# EAGLE library part BME280 (library Badge_v202004081200_Eagle_Library_regex)
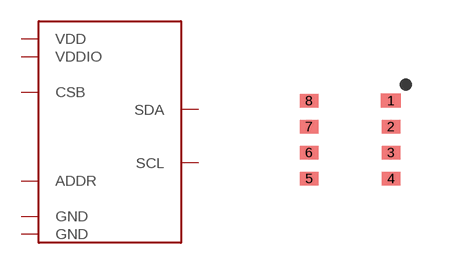
[diagram p3: symbol with the pads of BME280; footprint BME280]

Designator prefix U

## BME280 (MANUFACTURER: Bosch-Sensortec)  [BME280]
1  GND  nc
2  CSB  nc
3  SDA  nc
4  SCL  nc
5  ADDR  nc
6  VDDIO  nc
7  GND  nc
8  VDD  nc

## Footprint BME280 (pad centres in mm)
smd 0.5 x 0.35: 1 1.025,0.975; 2 1.025,0.325; 3 1.025,-0.325; 4 1.025,-0.975; 5 -1.025,-0.975; 6 -1.025,-0.325; 7 -1.025,0.325; 8 -1.025,0.975